# EAGLE library part INA250 (library SaintGimp)
Current Amplifier With Integrated Shunt
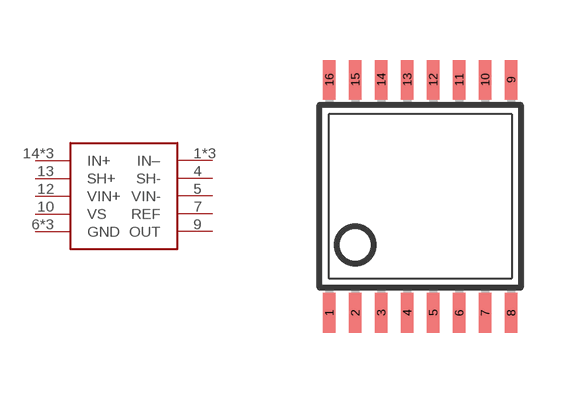
[diagram p25: symbol with the pads of TSSOP-16; footprint TSSOP-16]

Designator prefix IC

## INA250  [TSSOP-16]
1  IN–  pas
2  IN–  pas
3  IN–  pas
4  SH-  out
5  VIN-  in
6  GND  pwr
7  REF  in
8  GND  pwr
9  OUT  out
10  VS  pwr
11  GND  pwr
12  VIN+  in
13  SH+  out
14  IN+  pas
15  IN+  pas
16  IN+  pas

## Footprint TSSOP-16 (pad centres in mm)
Thin Shrink Small Outline Plastic 16 MAX3223-MAX3243.pdf
smd 0.305 x 0.991: 1 -2.275,-2.918; 2 -1.625,-2.918; 3 -0.975,-2.918; 4 -0.325,-2.918; 5 0.325,-2.918; 6 0.975,-2.918; 7 1.625,-2.918; 8 2.275,-2.918; 9 2.275,2.918; 10 1.625,2.918; 11 0.975,2.918; 12 0.325,2.918; 13 -0.325,2.918; 14 -0.975,2.918; 15 -1.625,2.918; 16 -2.275,2.918